# Altium footprint library Resistors.PcbLib: 17 footprints (part 1 of 2)
Each footprint in its own frame and in the unit in brackets; x right, y up, seen from the top. Pads: shape width x height; smd on the part's side, far side on the other; paste and mask are expansions set on the pad; w line width, h text height; cw(c..) or ccw(c..) is an arc to the next point about the centre after c.
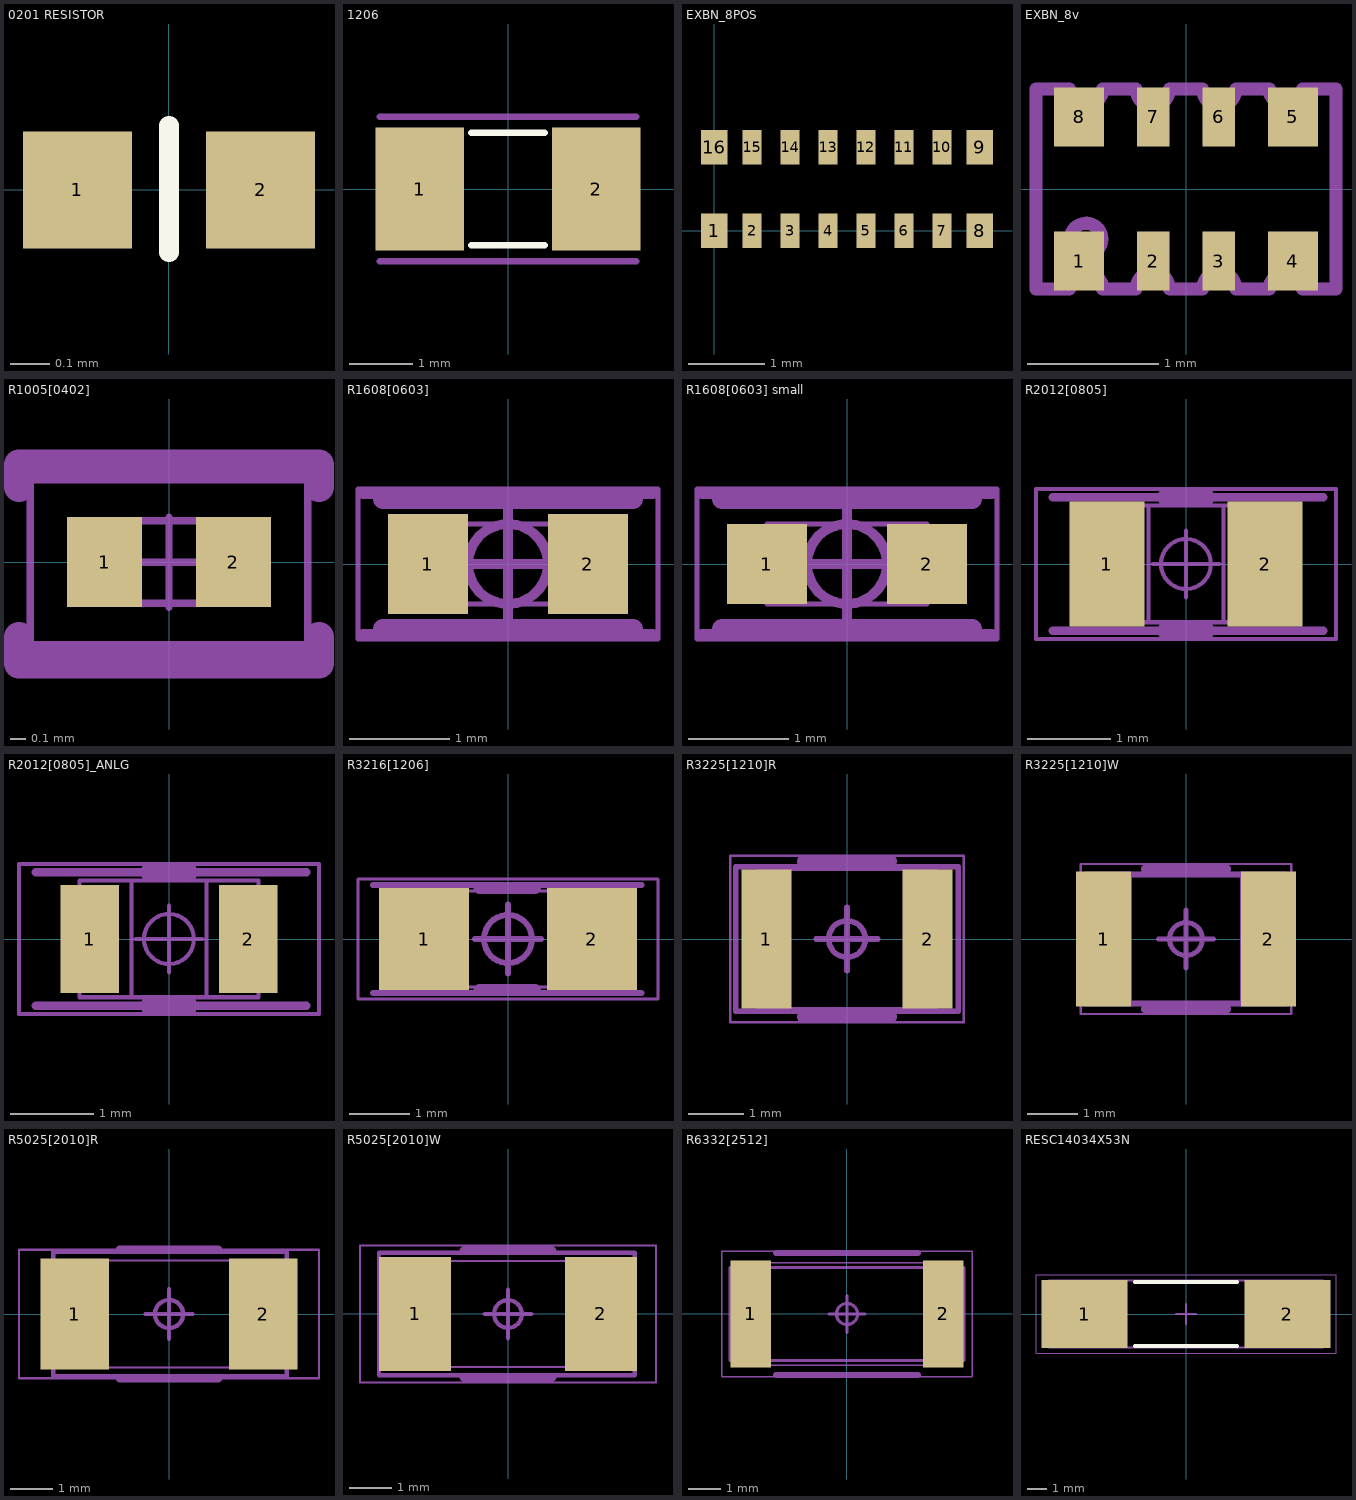
[diagram p0: the footprints below, top view; thin cyan lines are the x and y axes]

## 0201 RESISTOR [mm]
pads (4):
  rect 0.28x0.3 smd paste-1 mask+0.03: 1(-0.235,0) 2(0.235,0)
  round 0.254 on Top Paste mask+0.03: ""(-0.235,0) ""(0.235,0)
Top Overlay:
  lines w0.051: 0,-0.16 0,0.165
3D body: height 0.3, standoff 0, extent -0.31,-0.15 0.29,0.15

## 1206 [mm]
pads (2):
  rect 1.4x1.95 smd: 1(-1.4,0) 2(1.4,0)
Top Overlay:
  lines w0.1: -0.584,-0.889 0.584,-0.889 ; -0.584,0.889 0.584,0.889
Mechanical 7:
  lines w0.1: -2.032,-1.143 2.032,-1.143 ; -2.032,1.143 2.032,1.143
  text ".Designator" at -1.397,-0.381 h1.5
3D body: height 0.5, standoff 0, extent -1.5,-0.8 1.5,0.8

## EXBN_8POS [mm]
pads (16):
  rect 0.35x0.45 smd mask+0.051: 1(0,0) 8(3.5,0) 9(3.5,1.1) 16(0,1.1)
  rect 0.25x0.45 smd mask+0.051: 2(0.5,0) 3(1,0) 4(1.5,0) 5(2,0) 6(2.5,0) 7(3,0) 10(3,1.1) 11(2.5,1.1) 12(2,1.1) 13(1.5,1.1) 14(1,1.1) 15(0.5,1.1)
Mechanical 7:
  text ".Designator" at -2.032,-1.397 h1.5
3D body: height 0.45, standoff 0, extent -0.185,0.05 3.683,1.05

## EXBN_8v [mm]
pads (8):
  rect 0.38x0.45 smd mask+0.051: 1(-0.815,-0.55) 4(0.815,-0.55) 5(0.815,0.55) 8(-0.815,0.55)
  rect 0.25x0.45 smd mask+0.051: 2(-0.25,-0.55) 3(0.25,-0.55) 6(0.25,0.55) 7(-0.25,0.55)
Mechanical 7:
  circle w0.1: c-0.762,-0.381 r0.12
  lines w0.1: -1.143,-0.762 -1.143,0.762 -0.889,0.762 ccw(c-0.762,0.762) -0.635,0.762 -0.381,0.762 ccw(c-0.254,0.762) -0.127,0.762 0.127,0.762 ccw(c0.254,0.762) 0.381,0.762 0.635,0.762 ccw(c0.762,0.762) 0.889,0.762 1.143,0.762 1.143,-0.762 0.889,-0.762 ccw(c0.762,-0.762) 0.635,-0.762 0.381,-0.762 ccw(c0.254,-0.762) 0.127,-0.762 -0.127,-0.762 ccw(c-0.254,-0.762) -0.381,-0.762 -0.635,-0.762 ccw(c-0.762,-0.762) -0.889,-0.762 -1.143,-0.762
  text ".Designator" at -0.508,-0.508 h1.5
3D body: height 0.45, standoff 0, extent -1,-0.5 1,0.5

## R1005[0402] [mm] "Resistor 1005[0402]"
height 0.4
pads (2):
  rect 0.5x0.6 smd: 1(-0.43,0) 2(0.43,0)
Mechanical 2:
  lines w0.05: -0.275,-0.275 -0.275,0.275 ; 0.275,-0.275 0.275,0.275 ; -0.525,-0.275 0.525,-0.275 0.525,0.275 -0.525,0.275 -0.525,0 -0.525,-0.275
Mechanical 4:
  lines w0.05: -0.3,0 0.3,0 ; 0,-0.3 0,0.3 ; -0.925,-0.55 0.925,-0.55 0.925,0.55 -0.925,0.55 -0.925,-0.55
Mechanical 7:
  lines w0.1: -0.925,-0.625 0.925,-0.625 ; -0.925,0.6 0.925,0.6
  text ".Designator" at -1.325,-0.475 h1.5
Mechanical 13:
  lines w0.2: -1,-0.5 -1,-0.675 1,-0.675 1,-0.5 ; -1,0.5 -1,0.65 1,0.65 1,0.5
3D body "R1005(0402).STEP": height 0.4, standoff 0, extent -0.5,-0.3 0.5,0.3

## R1608[0603] [mm]
height 1
pads (2):
  rect 0.8x1 smd: 1(-0.8,0) 2(0.8,0)
Mechanical 2:
  lines w0.05: -0.5,-0.4 -0.5,0.4 ; 0.5,-0.4 0.5,0.4 ; -0.8,-0.4 0.8,-0.4 0.8,0.4 -0.8,0.4 -0.8,0 -0.8,-0.4
Mechanical 4:
  circle w0.1: c0,0 r0.4
  lines w0.05: -1.5,-0.75 1.5,-0.75 1.5,0.75 -1.5,0.75 -1.5,-0.75
  lines w0.1: -0.55,0 0.55,0 ; 0,-0.575 0,0.575
Mechanical 7:
  lines w0.1: -1.45,-0.7 1.45,-0.7 ; -1.45,0.7 1.45,0.7
  text ".Designator" at -1.3,-0.6 h1.8
Mechanical 13:
  lines w0.2: -1.25,-0.65 1.25,-0.65 ; -1.25,0.65 1.25,0.65
3D body "R1608[0603].STEP": height 0.5, standoff 0, extent -0.8,-0.4 0.8,0.4

## R1608[0603] small [mm]
height 1
pads (2):
  rect 0.8x0.8 smd: 1(-0.8,0) 2(0.8,0)
Mechanical 2:
  lines w0.05: -0.5,-0.4 -0.5,0.4 ; 0.5,-0.4 0.5,0.4 ; -0.8,-0.4 0.8,-0.4 0.8,0.4 -0.8,0.4 -0.8,0 -0.8,-0.4
Mechanical 4:
  circle w0.1: c0,0 r0.4
  lines w0.05: -1.5,-0.75 1.5,-0.75 1.5,0.75 -1.5,0.75 -1.5,-0.75
  lines w0.1: -0.55,0 0.55,0 ; 0,-0.575 0,0.575
Mechanical 7:
  lines w0.1: -1.45,-0.7 1.45,-0.7 ; -1.45,0.7 1.45,0.7
  text ".Designator" at -1.3,-0.6 h1.8
Mechanical 13:
  lines w0.2: -1.25,-0.65 1.25,-0.65 ; -1.25,0.65 1.25,0.65
3D body "R1608[0603].STEP": height 0.5, standoff 0, extent -0.8,-0.4 0.8,0.4

## R2012[0805] [mm] "3DModel=0805.ogl"
pads (2):
  rect 0.9x1.5 smd: 1(-0.95,0) 2(0.95,0)
Mechanical 2:
  lines w0.05: -0.45,-0.7 -0.45,0.7 ; 0.45,-0.7 0.45,0.7 ; -1.075,-0.7 1.075,-0.7 1.075,0.7 -1.075,0.7 -1.075,-0.7
Mechanical 4:
  circle w0.05: c0,0 r0.3
  lines w0.05: -0.4,0 0.4,0 ; 0,-0.4 0,0.4 ; -1.8,-0.9 -1.8,0.9 1.8,0.9 1.8,-0.9 -1.8,-0.9
Mechanical 7:
  lines w0.1: -1.6,-0.8 1.65,-0.8 ; -1.6,0.8 1.65,0.8
  text ".Designator" at -1.85,-0.6 h1.8
Mechanical 13:
  lines w0.2: -0.25,-0.8 0.25,-0.8 ; -0.25,0.8 0.25,0.8
3D body "R2012[0805].STEP": height 0.9, standoff 0, extent -1.1,-0.7 1.1,0.7

## R2012[0805]_ANLG [mm] "3DModel=0805.ogl"
pads (2):
  rect 0.7x1.3 smd: 1(-0.95,0) 2(0.95,0)
Mechanical 2:
  lines w0.05: -0.45,-0.7 -0.45,0.7 ; 0.45,-0.7 0.45,0.7 ; -1.075,-0.7 1.075,-0.7 1.075,0.7 -1.075,0.7 -1.075,-0.7
Mechanical 4:
  circle w0.05: c0,0 r0.3
  lines w0.05: -0.4,0 0.4,0 ; 0,-0.4 0,0.4 ; -1.8,-0.9 -1.8,0.9 1.8,0.9 1.8,-0.9 -1.8,-0.9
Mechanical 7:
  lines w0.1: -1.6,-0.8 1.65,-0.8 ; -1.6,0.8 1.65,0.8
  text ".Designator" at -1.85,-0.6 h1.8
Mechanical 13:
  lines w0.2: -0.25,-0.8 0.25,-0.8 ; -0.25,0.8 0.25,0.8
3D body "R2012[0805].STEP": height 0.9, standoff 0, extent -1.1,-0.7 1.1,0.7

## R3216[1206] [mm]
pads (2):
  rect 1.5x1.7 smd: 1(-1.4,0) 2(1.4,0)
Mechanical 2:
  lines w0.05: -0.95,-0.8 -0.95,0.8 ; 0.95,-0.8 0.95,0.8 ; -1.65,-0.8 -1.65,0.8 1.65,0.8 1.65,-0.8 -1.65,-0.8
Mechanical 4:
  circle w0.1: c0,0 r0.4
  lines w0.05: -2.5,-1 -2.5,1 2.5,1 2.5,-1 -2.5,-1
  lines w0.1: -0.55,0 0.55,0 ; 0,-0.575 0,0.575
Mechanical 7:
  lines w0.1: -2.25,-0.9 2.225,-0.9 ; -2.25,0.9 2.225,0.9
  text ".Designator" at -1.6,-0.675 h2.2
Mechanical 13:
  lines w0.2: -0.475,-0.85 0.45,-0.85 ; -0.475,0.85 0.45,0.85
3D body "R3216[1206].STEP": height 0.9, standoff 0, extent -1.6,-0.8 1.6,0.8

## R3225[1210]R [mm]
height 0.55
pads (2):
  rect 0.9x2.5 smd: 1(-1.45,0) 2(1.45,0)
Mechanical 2:
  lines w0.05: -1.1,-1.25 -1.1,1.25 ; 1.1,-1.25 1.1,1.25 ; -1.6,-1.25 -1.6,1.25 1.6,1.25 1.6,-1.25 -1.6,-1.25
Mechanical 4:
  circle w0.1: c0,0 r0.329
  lines w0.05: -2.1,-1.5 -2.1,1.5 2.1,1.5 2.1,-1.5 -2.1,-1.5
  lines w0.1: -0.55,0 0.55,0 ; 0,-0.575 0,0.575
Mechanical 7:
  lines w0.1: -2,-1.3 -2,1.3 2,1.3 2,-1.3 -2,-1.3
  text ".Designator" at -1.675,-0.675 h2.2
Mechanical 13:
  lines w0.2: -0.8,-1.4 0.8,-1.4 ; -0.8,1.4 0.8,1.4
3D body "R3225[1210]R.STEP": height 0.9, standoff 0, extent -1.6,-1.25 1.6,1.25

## R3225[1210]W [mm]
height 0.55
pads (2):
  rect 1.1x2.7 smd: 1(-1.65,0) 2(1.65,0)
Mechanical 2:
  lines w0.05: -1.1,-1.25 -1.1,1.25 ; 1.1,-1.25 1.1,1.25 ; -1.6,-1.25 -1.6,1.25 1.6,1.25 1.6,-1.25 -1.6,-1.25
Mechanical 4:
  circle w0.1: c0,0 r0.329
  lines w0.05: -2.1,-1.5 -2.1,1.5 2.1,1.5 2.1,-1.5 -2.1,-1.5
  lines w0.1: -0.55,0 0.55,0 ; 0,-0.575 0,0.575
Mechanical 7:
  lines w0.1: -2,-1.3 -2,1.3 2,1.3 2,-1.3 -2,-1.3
  text ".Designator" at -1.575,-0.725 h2.2
Mechanical 13:
  lines w0.2: -0.8,-1.4 0.8,-1.4 ; -0.8,1.4 0.8,1.4
3D body "R3225[1210]R.STEP": height 0.9, standoff 0, extent -1.6,-1.25 1.6,1.25

## R5025[2010]R [mm]
height 0.6
pads (2):
  rect 1.6x2.6 smd: 1(-2.2,0) 2(2.2,0)
Mechanical 2:
  lines w0.05: -1.9,-1.25 -1.9,1.25 ; 1.9,-1.25 1.9,1.25 ; -2.5,-1.25 2.5,-1.25 2.5,1.25 -2.5,1.25 -2.5,-1.25
Mechanical 4:
  circle w0.1: c0,0 r0.329
  lines w0.05: -3.5,-1.5 3.5,-1.5 3.5,1.5 -3.5,1.5 -3.5,-1.5
  lines w0.1: -0.55,0 0.55,0 ; 0,-0.575 0,0.575
Mechanical 7:
  lines w0.1: -2.7,-1.45 2.75,-1.45 2.75,1.45 -2.7,1.45 -2.7,-1.45
  text ".Designator" at -2.2,-0.7 h2.2
Mechanical 13:
  lines w0.2: -1.15,-1.5 1.15,-1.5 ; -1.15,1.5 1.15,1.5
3D body "R5025[2010]R.STEP": height 0.9, standoff 0, extent -2.425,-1.25 2.575,1.25

## R5025[2010]W [mm]
pads (2):
  rect 1.7x2.7 smd: 1(-2.2,0) 2(2.2,0)
Mechanical 2:
  lines w0.05: -1.9,-1.25 -1.9,1.25 ; 1.9,-1.25 1.9,1.25 ; -2.5,-1.25 2.5,-1.25 2.5,1.25 -2.5,1.25 -2.5,-1.25
Mechanical 4:
  circle w0.1: c0,0 r0.329
  lines w0.05: -3.5,-1.625 3.5,-1.625 3.5,1.625 -3.5,1.625 -3.5,-1.625
  lines w0.1: -0.55,0 0.55,0 ; 0,-0.575 0,0.575
Mechanical 7:
  lines w0.1: -3.05,-1.45 3,-1.45 3,1.45 -3.05,1.45 -3.05,-1.45
  text ".Designator" at -2.525,-0.475 h2
Mechanical 13:
  lines w0.2: -1.05,-1.5 1.05,-1.5 ; -1.05,1.5 1.05,1.5
3D body "R5025[2010]R.STEP": height 0.9, standoff 0, extent -2.4,-1.25 2.6,1.25

## R6332[2512] [mm]
height 23
pads (2):
  rect 1.25x3.35 smd: 1(-3,0) 2(3,0)
Mechanical 2:
  lines w0.05: -2.6,-1.6 -2.6,1.6 ; 2.6,-1.6 2.6,1.6 ; -3.2,-1.6 -3.2,1.6 3.2,1.6 3.2,-1.6 -3.2,-1.6
Mechanical 4:
  circle w0.1: c0,0 r0.329
  lines w0.05: -3.9,-1.95 -3.9,1.95 3.9,1.95 3.9,-1.95 -3.9,-1.95
  lines w0.1: -0.55,0 0.55,0 ; 0,-0.575 0,0.575
Mechanical 7:
  lines w0.1: -3.65,-1.45 -3.65,1.45 3.65,1.45 3.65,-1.45 -3.65,-1.45
  text ".Designator" at -2.15,-0.3 h1.8
Mechanical 13:
  lines w0.2: -2.2,-1.9 2.2,-1.9 ; -2.2,1.9 2.2,1.9
3D body "R6332[2512].STEP": height 0.9, standoff 0, extent -3.15,-1.65 3.25,1.65

## RESC14034X53N [mm] "Chip Resistor, 2-Leads, Body 14.00x3.40mm, IPC Medium Density"
height 5.3
pads (2):
  rect 4.4x3.45 smd: 1(-5.175,0) 2(5.175,0)
Top Overlay:
  lines w0.2: -2.6,-1.625 2.6,-1.625 ; -2.6,1.625 2.6,1.625
Mechanical 13:
  lines w0.1: -7,-1.7 -7,1.7 7,1.7 7,-1.7 -7,-1.7
Mechanical 15:
  lines w0.05: -7.65,-2 -7.65,2 7.65,2 7.65,-2 -7.65,-2
  lines w0.1: -0.5,0 0.5,0 ; 0,-0.5 0,0.5
3D body "RESC14034X53N.step": height 5.3, standoff 0, extent -7,-1.7 7,1.7